# Altium schematic symbol library TPS62147RGXT.SchLib: 1 symbol
Pins are listed as number, name and electrical type; pins without a type are passive.

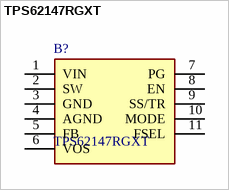
[diagram p0: symbol TPS62147RGXT]

## TPS62147RGXT
designator B?
3-17V 2.0A Step-Down Converter with 1% accuracy and PFM/Forced-PWM in 2x3QFN; Manufacturer_Name: Texas Instruments; Geometry.Height: 1mm; Mouser Part Number: 595-TPS62147RGXT; Mouser Price/Stock: https://www.mouser.co.uk/ProductDetail/Texas-Instruments/TPS62147RGXT?qs=55YtniHzbhA45fnTDB2zbg%3D%3D; Manufacturer_Part_Number: TPS62147RGXT; Datasheet Link: http://www.ti.com/lit/gpn/TPS62147
footprint TPS62147RGXT
pins: 1 VIN, 2 SW, 3 GND, 4 AGND, 5 FB, 6 VOS, 7 PG, 8 EN, 9 SS/TR, 10 MODE, 11 FSEL